# Altium schematic symbol library VX78012-1000.SchLib: 1 symbol
Pins are listed as number, name and electrical type; pins without a type are passive.

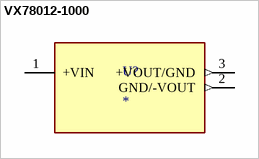
[diagram p0: symbol VX78012-1000]

## VX78012-1000
designator U?
MP: VX78012-1000; MF: {'manufacturer': u'CUI'}; Availability: Unavailable; Value: *; Package: None; Price: None
footprint VX78012-1000
pins: 1 +VIN (power), 2 GND/-VOUT (out), 3 +VOUT/GND (out)